# Altium footprint library Passives.PcbLib: 35 footprints (part 2 of 3)
Each footprint in its own frame and in the unit in brackets; x right, y up, seen from the top. Pads: shape width x height; smd on the part's side, far side on the other; paste and mask are expansions set on the pad; w line width, h text height; cw(c..) or ccw(c..) is an arc to the next point about the centre after c.
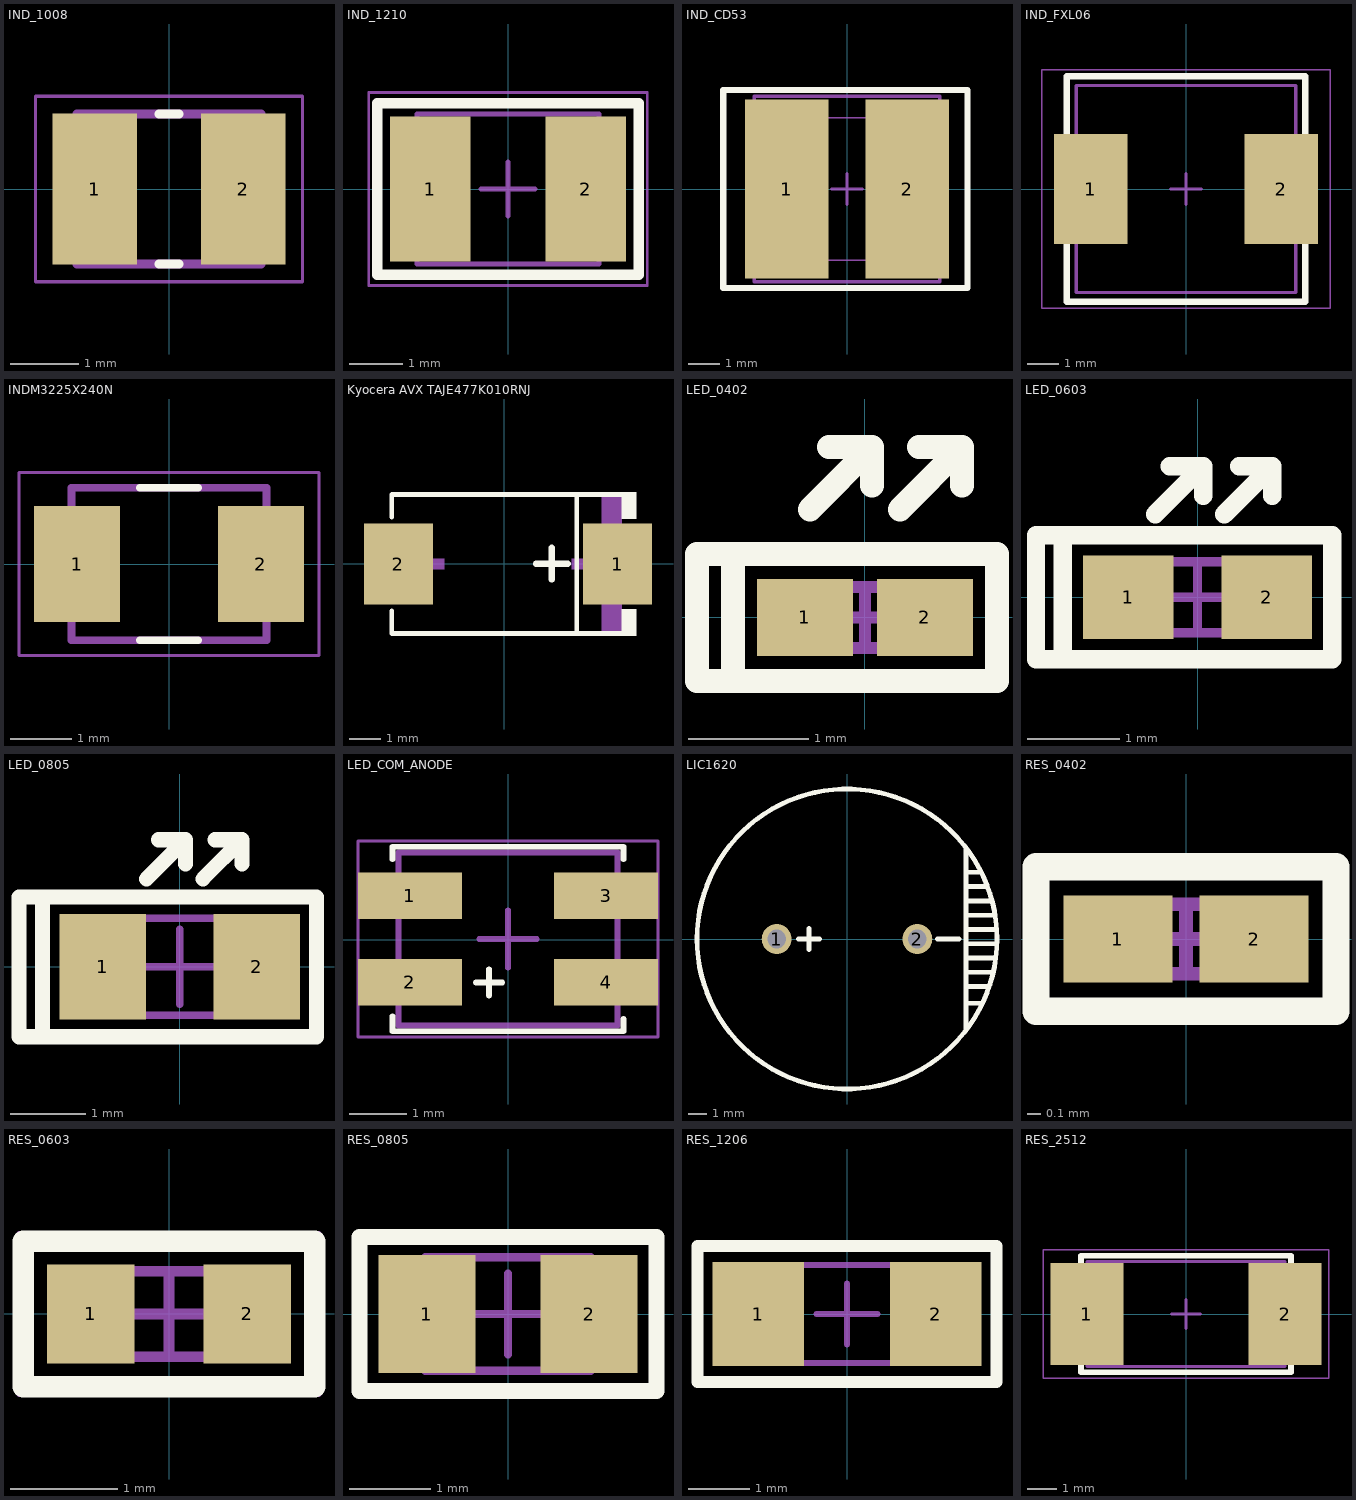
[diagram p1: the footprints below, top view; thin cyan lines are the x and y axes]

## IND_1008 [mm]
pads (2):
  rect 1.24x2.22 smd: 1(-1.09,0) 2(1.09,0)
Top Overlay:
  lines w0.127: -0.15,-1.1 0.15,-1.1 ; -0.15,1.1 0.15,1.1
Mechanical 13:
  lines w0.127: -1.35,-1.1 -1.35,1.1 1.35,1.1 1.35,-1.1 -1.35,-1.1
Mechanical 15:
  lines w0.05: -1.958,-1.358 -1.958,1.358 1.958,1.358 1.958,-1.358 -1.958,-1.358
3D body "step_temp.STEP": height 1.2, standoff 0, extent -1.25,-1 1.25,1

## IND_1210 [mm]
height 0.8
pads (2):
  rect 1.5x2.7 smd: 1(-1.45,0) 2(1.45,0)
Top Overlay:
  lines w0.2: -2.44,-1.6 -2.44,1.6 2.44,1.6 2.44,-1.6 -2.44,-1.6
Mechanical 13:
  lines w0.1: -1.7,-1.4 1.7,-1.4 1.7,1.4 -1.7,1.4 -1.7,-1.4
Mechanical 15:
  lines w0.05: -2.6,-1.8 2.6,-1.8 2.6,1.8 -2.6,1.8 -2.6,-1.8
  lines w0.1: -0.5,0 0.5,0 ; 0,-0.5 0,0.5
3D body: height 2.5, standoff 0, extent 0.88,-1.4 1.7,1.4
3D body: height 2.5, standoff 0, extent -1.7,-1.4 -0.88,1.4
3D body: height 2.48, standoff 0.02, extent -0.88,-1.38 0.88,1.38

## IND_CD53 [mm] "Precision Wire Wound Inductor, 2-Leads, Body 4,50x4,00mm, IPC Medium Density"
height 3.3
pads (2):
  rect 2.7x5.8 smd: 1(-1.95,0) 2(1.95,0)
Top Overlay:
  lines w0.2: -4,-3.2 -4,3.2 3.9,3.2 3.9,-3.2 -4,-3.2
Mechanical 13:
  lines w0.1: -3,-3 3,-3 3,3 -3,3 -3,-3
Mechanical 15:
  lines w0.05: -3.175,-2.3 3.175,-2.3 3.175,2.3 -3.175,2.3 -3.175,-2.3
  lines w0.1: -0.5,0 0.5,0 ; 0,-0.5 0,0.5
3D body: height 2.8, standoff 0, extent -3,-3 3,3

## IND_FXL06 [mm] "Precision Wire Wound Inductor, 2-Leads, Body 4,50x4,00mm, IPC Medium Density"
height 3.3
pads (2):
  rect 2.35x3.5 smd: 1(-3.035,0) 2(3.035,0)
Top Overlay:
  lines w0.2: -3.8,-3.6 3.8,-3.6 3.8,3.6 -3.8,3.6 -3.8,-3.6
Mechanical 13:
  lines w0.1: -3.5,-3.3 -3.5,3.3 3.5,3.3 3.5,-3.3 -3.5,-3.3
Mechanical 15:
  lines w0.05: -4.6,-3.8 -4.6,3.8 4.6,3.8 4.6,-3.8 -4.6,-3.8
  lines w0.1: -0.5,0 0.5,0 ; 0,-0.5 0,0.5
3D body: height 2.8, standoff 0, extent -3.5,-3.3 3.5,3.3

## INDM3225X240N [mm]
height 2.4
pads (2):
  rect 1.41x1.91 smd: 1(-1.505,0) 2(1.505,0)
Top Overlay:
  lines w0.127: -0.48,-1.25 0.48,-1.25 ; -0.48,1.25 0.48,1.25
Mechanical 13:
  lines w0.127: -1.6,-1.25 -1.6,1.25 1.6,1.25 1.6,-1.25 -1.6,-1.25
Mechanical 15:
  lines w0.05: -2.46,-1.5 -2.46,1.5 2.46,1.5 2.46,-1.5 -2.46,-1.5
3D body "step_temp.STEP": height 2.4, standoff 0, extent -1.6,-1.25 1.6,1.25

## Kyocera AVX TAJE477K010RNJ [mm] "470uF ±10% 10V Tantalum Capacitors 500mΩ@100kHz CASE-E-7343-43(mm)"
pads (2):
  rect 2.207x2.592 smd paste+0 mask+0.051: 1(3.63,-0.009) 2(-3.392,-0.009)
Top Overlay:
  region: 3.769,2.293 3.769,1.439 4.226,1.439 4.226,2.293
  region: 3.769,-2.311 3.769,-1.457 4.226,-1.457 4.226,-2.311
  lines w0.152: -3.607,-1.508 -3.607,-2.235 3.845,-2.235 ; -3.607,1.49 -3.607,2.217 3.845,2.217 ; 2.323,-2.235 2.323,2.217
  lines w0.2: 1.016,0 2.032,0 ; 1.524,-0.508 1.524,0.508
Mechanical 15:
  region: -3.208,-0.17 -3.208,0.152 -1.918,0.152 -1.918,-0.17
  region: 3.447,-0.17 3.447,0.152 2.157,0.152 2.157,-0.17
  region: 2.963,-1.084 2.963,1.066 2.64,1.066 2.64,-1.084
  region: 3.769,-2.159 3.769,-1.084 3.124,-1.084 3.124,-2.159
  region: 3.769,2.141 3.769,1.066 3.124,1.066 3.124,2.141
3D body: height 4.3, standoff 0, extent -3.533,-2.153 3.765,2.151

## LED_0402 [mm] "Chip Capacitor, 2-Leads, Body 1,53x0,77mm, IPC Medium Density"
height 0.7
pads (2):
  rect 0.8x0.64 smd: 1(-0.5,0) 2(0.5,0)
Top Overlay:
  lines w0.2: -0.46,0.9 0.06,1.42 ; -0.3,1.42 0.06,1.42 ; 0.06,1.1 0.06,1.42 ; 0.29,0.9 0.81,1.42 ; 0.45,1.42 0.81,1.42 ; 0.81,1.1 0.81,1.42 ; -1.1,-0.53 -1.4,-0.53 -1.4,0.53 -1.1,0.53 ; -1.1,-0.53 1.1,-0.53 1.1,0.53 -1.1,0.53 ; -1.1,-0.53 -1.1,0.53
Mechanical 13:
  lines w0.1: -0.55,-0.255 -0.55,0.255 0.55,0.255 0.55,-0.255 -0.55,-0.255
Mechanical 15:
  lines w0.05: -1.05,-0.5 -1.05,0.5 1.05,0.5 1.05,-0.5 -1.05,-0.5
  lines w0.1: -0.255,0 0.255,0 ; 0,-0.255 0,0.255
3D body: height 0.5, standoff 0, extent -0.3,-0.255 0.3,0.255
3D body: height 0.5, standoff 0, extent -0.55,-0.255 -0.3,0.255
3D body: height 0.5, standoff 0, extent 0.3,-0.255 0.55,0.255

## LED_0603 [mm] "Chip Capacitor, 2-Leads, Body 1,53x0,77mm, IPC Medium Density"
height 0.7
pads (2):
  rect 0.98x0.9 smd: 1(-0.75,0) 2(0.75,0)
Top Overlay:
  lines w0.2: -0.46,0.9 0.06,1.42 ; -0.3,1.42 0.06,1.42 ; 0.06,1.1 0.06,1.42 ; 0.29,0.9 0.81,1.42 ; 0.45,1.42 0.81,1.42 ; 0.81,1.1 0.81,1.42 ; -1.46,-0.67 -1.75,-0.67 -1.75,0.67 -1.46,0.67 ; -1.46,-0.67 -1.46,0.67 ; -1.46,-0.67 1.46,-0.67 1.46,0.67 -1.46,0.67
Mechanical 13:
  lines w0.1: -0.775,-0.385 -0.775,0.385 0.775,0.385 0.775,-0.385 -0.775,-0.385
Mechanical 15:
  lines w0.05: -1.5,-0.7 -1.5,0.7 1.5,0.7 1.5,-0.7 -1.5,-0.7
  lines w0.1: -0.385,0 0.385,0 ; 0,-0.385 0,0.385
3D body: height 0.7, standoff 0, extent -0.345,-0.385 0.345,0.385
3D body: height 0.7, standoff 0, extent -0.775,-0.385 -0.345,0.385
3D body: height 0.7, standoff 0, extent 0.345,-0.385 0.775,0.385

## LED_0805 [mm]
pads (2):
  rect 1.15x1.4 smd: 1(-1.025,0) 2(1.025,0)
Top Overlay:
  lines w0.2: -1.82,-0.93 -2.14,-0.93 -2.14,0.93 -1.82,0.93 ; -0.445,1.17 0.075,1.69 ; -0.285,1.69 0.075,1.69 ; 0.075,1.37 0.075,1.69 ; 0.305,1.17 0.825,1.69 ; 0.465,1.69 0.825,1.69 ; 0.825,1.37 0.825,1.69 ; -1.825,-0.93 -1.825,0.93 1.815,0.93 1.815,-0.93 -1.825,-0.93
Mechanical 13:
  lines w0.1: -1.035,-0.645 1.035,-0.645 1.035,0.645 -1.035,0.645 -1.035,-0.645
Mechanical 15:
  lines w0.05: -1.85,-0.95 1.85,-0.95 1.85,0.95 -1.85,0.95 -1.85,-0.95
  lines w0.1: -0.5,0 0.5,0 ; 0,-0.5 0,0.5
3D body: height 1.4, standoff 0, extent 0.535,-0.645 1.035,0.645
3D body: height 1.4, standoff 0, extent -1.035,-0.645 -0.535,0.645
3D body: height 1.4, standoff 0, extent -0.535,-0.645 0.535,0.645

## LED_COM_ANODE [mm]
pads (4):
  rect 1.8x0.8 smd: 1(-1.703,0.766) 2(-1.703,-0.734) 3(1.697,0.766) 4(1.697,-0.734)
Top Overlay:
  lines w0.1: -2.007,1.397 -2.007,1.616 -2.003,1.616 -1.956,1.616 -1.503,1.616 1.997,1.616 1.997,1.397 ; -2.003,-1.321 -2.003,-1.584 1.997,-1.584 1.997,-1.372 ; -0.559,-0.737 -0.102,-0.737 ; -0.33,-0.965 -0.33,-0.508
Mechanical 13:
  lines w0.1: -1.903,-1.484 1.897,-1.484 1.897,1.516 -1.903,1.516 -1.903,-1.484
Mechanical 15:
  lines w0.05: -2.603,-1.684 -2.603,1.716 2.597,1.716 2.597,-1.684 -2.603,-1.684
  lines w0.1: -0.503,0.016 0.497,0.016 ; -0.003,-0.484 -0.003,0.516
3D body: height 2.2, standoff 2, extent -1.193,-1.181 1.197,1.214
3D body: height 1.8, standoff 0.1, extent -1.903,-1.484 1.897,1.516

## LIC1620 [mm]
pads (2):
  round 1.6 hole 1: 1(-3.75,0) 2(3.75,0)
Top Overlay:
  circle w0.254: c0,0 r8
  lines w0.254: -2.603,0 -1.46,0 ; -2.032,-0.572 -2.032,0.572 ; 4.826,0 5.969,0 ; 6.35,-4.826 6.35,4.826 ; 6.35,-3.429 7.112,-3.429 ; 6.35,-2.54 7.493,-2.54 ; 6.35,-1.778 7.747,-1.778 ; 6.35,-1.016 7.874,-1.016 ; 6.35,-0.254 7.874,-0.254 ; 6.35,0.508 7.874,0.508 ; 6.35,1.27 7.874,1.27 ; 6.35,2.032 7.62,2.032 ; 6.35,2.794 7.366,2.794 ; 6.35,3.556 7.112,3.556
3D body: height 20, standoff 0, extent -7.992,-8.011 8.008,7.989

## RES_0402 [mm]
pads (2):
  rect 0.8x0.64 smd: 1(-0.5,0) 2(0.5,0)
Top Overlay:
  lines w0.2: -1.1,-0.53 1.1,-0.53 1.1,0.53 -1.1,0.53 -1.1,-0.53
Mechanical 13:
  lines w0.1: -0.55,-0.255 -0.55,0.255 0.55,0.255 0.55,-0.255 -0.55,-0.255
Mechanical 15:
  lines w0.05: -1.05,-0.5 -1.05,0.5 1.05,0.5 1.05,-0.5 -1.05,-0.5
  lines w0.1: -0.255,0 0.255,0 ; 0,-0.255 0,0.255
3D body: height 0.5, standoff 0, extent -0.3,-0.255 0.3,0.255
3D body: height 0.5, standoff 0, extent -0.55,-0.255 -0.3,0.255
3D body: height 0.5, standoff 0, extent 0.3,-0.255 0.55,0.255

## RES_0603 [mm]
pads (2):
  rect 0.82x0.92 smd: 1(-0.73,0) 2(0.73,0)
Top Overlay:
  lines w0.2: -1.36,-0.68 -1.36,0.68 1.36,0.68 1.36,-0.68 -1.36,-0.68
Mechanical 13:
  lines w0.1: -0.8,-0.4 -0.8,0.4 0.8,0.4 0.8,-0.4 -0.8,-0.4
Mechanical 15:
  lines w0.05: -1.4,-0.75 -1.4,0.75 1.4,0.75 1.4,-0.75 -1.4,-0.75
  lines w0.1: -0.4,0 0.4,0 ; 0,-0.4 0,0.4
3D body: height 0.7, standoff 0, extent -0.45,-0.4 0.45,0.4
3D body: height 0.7, standoff 0, extent -0.8,-0.4 -0.45,0.4
3D body: height 0.7, standoff 0, extent 0.45,-0.4 0.8,0.4

## RES_0805 [mm]
pads (2):
  rect 1.2x1.45 smd: 1(-1,0) 2(1,0)
Top Overlay:
  lines w0.2: -1.83,-0.95 1.83,-0.95 1.83,0.95 -1.83,0.95 -1.83,-0.95
Mechanical 13:
  lines w0.1: -1.02,-0.7 -1.02,0.7 1.02,0.7 1.02,-0.7 -1.02,-0.7
Mechanical 15:
  lines w0.05: -1.85,-1 -1.85,1 1.85,1 1.85,-1 -1.85,-1
  lines w0.1: -0.5,0 0.5,0 ; 0,-0.5 0,0.5
3D body: height 1.3, standoff 0, extent -0.47,-0.7 0.47,0.7
3D body: height 1.3, standoff 0, extent -1.02,-0.7 -0.47,0.7
3D body: height 1.3, standoff 0, extent 0.47,-0.7 1.02,0.7

## RES_1206 [mm]
pads (2):
  rect 1.5x1.7 smd: 1(-1.45,0) 2(1.45,0)
Top Overlay:
  lines w0.2: -2.44,-1.11 2.44,-1.11 2.44,1.11 -2.44,1.11 -2.44,-1.11
Mechanical 13:
  lines w0.1: -1.53,-0.8 -1.53,0.8 1.53,0.8 1.53,-0.8 -1.53,-0.8
Mechanical 15:
  lines w0.05: -2.45,-1.1 -2.45,1.1 2.45,1.1 2.45,-1.1 -2.45,-1.1
  lines w0.1: -0.5,0 0.5,0 ; 0,-0.5 0,0.5
3D body: height 0.8, standoff 0, extent -0.88,-0.8 0.88,0.8
3D body: height 0.8, standoff 0, extent -1.53,-0.8 -0.88,0.8
3D body: height 0.8, standoff 0, extent 0.88,-0.8 1.53,0.8

## RES_2512 [mm]
pads (2):
  rect 2.5x3.5 smd: 1(-3.4,0) 2(3.4,0)
Top Overlay:
  lines w0.2: -3.6,-2 3.6,-2 3.6,2 -3.6,2 -3.6,-2
Mechanical 13:
  lines w0.1: -3.4,-1.8 -3.4,1.8 3.4,1.8 3.4,-1.8 -3.4,-1.8
Mechanical 15:
  lines w0.05: -4.9,-2.2 4.9,-2.2 4.9,2.2 -4.9,2.2 -4.9,-2.2
  lines w0.1: -0.5,0 0.5,0 ; 0,-0.5 0,0.5
3D body: height 0.8, standoff 0, extent -2.5,-1.8 2.5,1.8
3D body: height 0.8, standoff 0, extent -3.4,-1.8 -2.5,1.8
3D body: height 0.8, standoff 0, extent 2.5,-1.8 3.4,1.8